# Altium schematic symbol library smart_lock.SCHLIB: 22 symbols
Pins are listed as number, name and electrical type; pins without a type are passive.

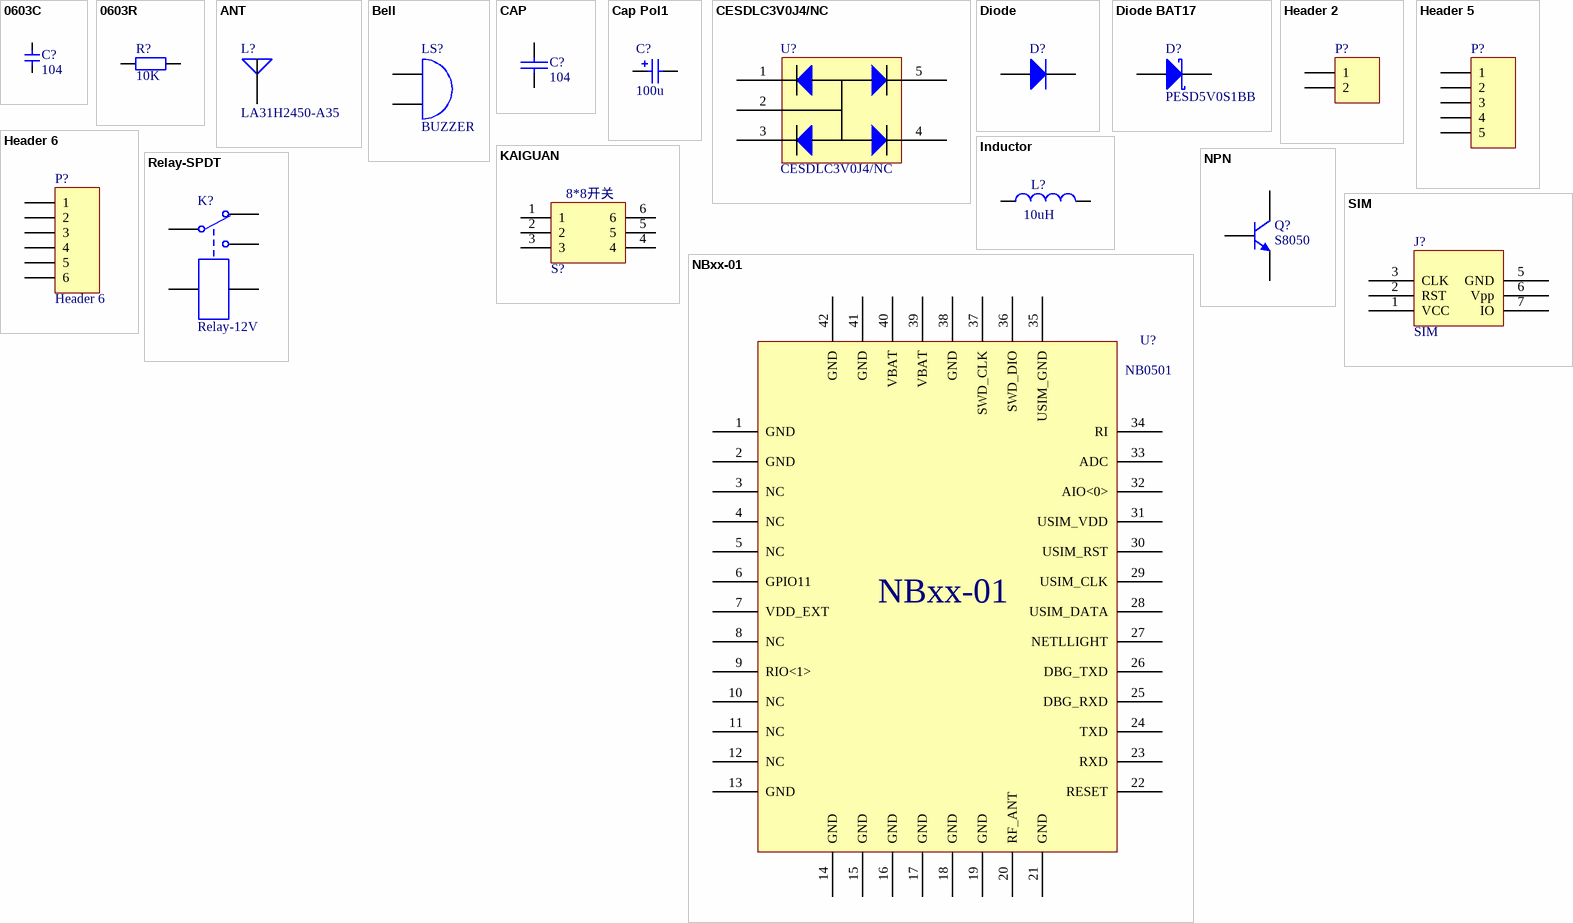
[diagram p0: symbols 0603C to SIM]

## 0603C
designator C?, comment 104
Capacitor
footprint 0603C
pins: 1, 2

## 0603R
designator R?, comment 10K
Resistor; Published: 8-Jun-2000; LatestRevisionDate: 17-Jul-2002; LatestRevisionNote: Re-released for DXP Platform.; PackageReference: 0805; Publisher: Altium Limited
footprint 0603
simulation model RESISTOR (Resistor)
signal-integrity model Res
pins: 1, 2

## ANT
designator L?, comment LA31H2450-A35
antena
footprint LA31H2450
pins: 1

## Bell
designator LS?, comment BUZZER
Electrical Bell; Published: 24-Mar-1999; LatestRevisionDate: 17-Jul-2002; LatestRevisionNote: Re-released for DXP Platform.; PackageReference: PIN2; Publisher: Altium Limited
footprint BUZZER
pins: 1 B, 2 A

## CAP
designator C?, comment 104
Capacitor
footprint RAD0.1
footprint 0805C
footprint 0603C
pins: 1, 2

## Cap Pol1
designator C?, comment 100u
Polarized Capacitor (Radial); Published: 8-Jun-2000; LatestRevisionDate: 17-Jul-2002; LatestRevisionNote: Re-released for DXP Platform.; PackageReference: RB7.6-15; Publisher: Altium Limited
footprint RB7.6-15 (Polarized Capacitor (Radial); 2 Leads)
footprint HA-C1 (Capacitor, Radial, Tantalum; Body 1.7 x 2.8 mm (Dia.xH max); Pin Spacing 1.27 mm (typ))
footprint A (Capacitor, Electrolytic, Radial; Body 4 x 5 mm (Dia.xH typ); Pin Spacing 1.5 mm (typ))
footprint B (Capacitor, Electrolytic, Radial; Body 5 x 6.8 mm (Dia.xH typ); Pin Spacing 2 mm (typ))
footprint CAPPR5-5x5 (Capacitor, Electrolytic, Radial; Body 5 x 5 mm (Dia.xH typ); Pin Spacing 5 mm (typ))
footprint CAPPR7.5-16x35 (Capacitor, Electrolytic, Radial; Body 16 x 35 mm (Dia.xH typ); Pin Spacing 7.5 mm (typ))
footprint SMD-EC-F6.3
pins: 1, 2
1 alternate drawing of the same symbol

## CESDLC3V0J4/NC
designator U?
diode array
footprint SOT353 (SOT-353/SC-88A; 5 Leads; Body 2.2 x 2.2 mm, inc. leads (LxW max))
pins: 1, 2, 3, 4, 5

## Diode
designator D?
Default Diode; Published: 8-Jun-2000; LatestRevisionDate: 17-Jul-2002; LatestRevisionNote: Re-released for DXP Platform.; PackageDocument: Sep-1996; PackageReference: SMC; Publisher: Altium Limited; Code_JEDEC: DO-214-AB
footprint SMC (DO-214-AB/SMC; 2 C-Bend Leads; Body 7.9 x 5.9 mm, inc. leads (LxW))
simulation model DIODE (Diode)
signal-integrity model Diode
footprint 1206D
pins: 1 A, 2 K

## Diode BAT17
designator D?, comment PESD5V0S1BB
Silicon RF Schottky Diode for Mixer Applications in the VHF/UHF Range; Note: Pin 2 is not connected and not drawn.; Published: 21-Mar-2003; DatasheetDocument: Oct-1999; PackageDocument: Sep-2001; PackageReference: SOT-23; Publisher: Altium Limited; ComponentLink1Description: Manufacturer Link; ComponentLink1URL: http://www.infineon.com/; ComponentLink2Description: Datasheet; ComponentLink2URL: http://www.infineon.com/upload/Document/cmc_upload/documents/009/363/bat17series.pdf
footprint SOT-23 (SOT-23; 3 Leads; Body 3.0 x 2.6 mm, inc. leads (LxW max))
simulation model D188 (DIODE)
footprint SOD-523
pins: 1 A, 2 K

## Header 2
designator P?
Header, 2-Pin; LatestRevisionDate: 17-Jul-2002; LatestRevisionNote: Re-released for DXP Platform.; Publisher: Altium Limited
footprint HX-2P
pins: 1, 2

## Header 5
designator P?
Header, 5-Pin; LatestRevisionDate: 17-Jul-2002; LatestRevisionNote: Re-released for DXP Platform.; Publisher: Altium Limited
footprint HDR1X5 (Connector; Header; 5 Position)
signal-integrity model Connector
pins: 1, 2, 3, 4, 5

## Header 6
designator P?
Header, 6-Pin; LatestRevisionDate: 17-Jul-2002; LatestRevisionNote: Re-released for DXP Platform.; Publisher: Altium Limited
footprint HDR1X6 (Connector; Header; 6 Position)
signal-integrity model Connector
pins: 1, 2, 3, 4, 5, 6

## Inductor
designator L?, comment 10uH
Inductor; Code_IEC: 1005; Published: 8-Jun-2000; LatestRevisionDate: 17-Jul-2002; LatestRevisionNote: Re-released for DXP Platform.; PackageReference: 0402-A; Publisher: Altium Limited; Code_JEITA: 0402
footprint 2012_Chip (2012 Chip; Chip Inductor; Body 2.0 x 1.2 mm (LxW typ))
footprint 2029 (Chip Inductor; Body 2 x 1.2 mm (LxW typ))
footprint 3261 (3216 Chip; Chip Inductor; Body 3.2 x 1.6 mm (LxW typ))
footprint 4564_Chip (4564 Chip; Chip Inductor; Body 4.5 x 6.4 mm (LxW typ))
simulation model INDUCTOR (Inductor)
footprint CD75NP
footprint CD54NP
footprint CD43NP (功率电感)
pins: 1, 2

## KAIGUAN
designator S?, comment 8*8开关
switch
footprint kaiguan
pins: 1, 2, 3, 4, 5, 6

## NBxx-01
designator U?, comment NB0501
nb-iot module, lierda
footprint NB05-SMD
pins: 1 GND, 2 GND, 3 NC, 4 NC, 5 NC, 6 GPIO11, 7 VDD_EXT, 8 NC, 9 RIO<1>, 10 NC, 11 NC, 12 NC, 13 GND, 14 GND, 15 GND, 16 GND, 17 GND, 18 GND, 19 GND, 20 RF_ANT, 21 GND, 22 RESET, 23 RXD, 24 TXD, 25 DBG_RXD, 26 DBG_TXD, 27 NETLLIGHT, 28 USIM_DATA, 29 USIM_CLK, 30 USIM_RST, 31 USIM_VDD, 32 AIO<0>, 33 ADC, 34 RI, 35 USIM_GND, 36 SWD_DIO, 37 SWD_CLK, 38 GND, 39 VBAT, 40 VBAT, 41 GND, 42 GND

## NPN
designator Q?, comment S8050
NPN Bipolar Transistor; Published: 8-Jun-2000; LatestRevisionDate: 17-Jul-2002; LatestRevisionNote: Re-released for DXP Platform.; PackageReference: TO-226; Publisher: Altium Limited; Code_JEDEC: TO-226-AA
footprint SOT-23 (SOT-23; 3 Leads; Body 3.0 x 2.6 mm, inc. leads (LxW max))
simulation model NPN
signal-integrity model NPN
pins: 1 B, 2 E, 3 C

## Relay-SPDT
designator K?, comment Relay-12V
Single-Pole Dual-Throw Relay; Published: 24-Mar-1999; LatestRevisionDate: 17-Jul-2002; LatestRevisionNote: Re-released for DXP Platform.; PackageReference: MODULE5B; Publisher: Altium Limited
footprint MODULE5B (DIP; 5 Round Pins; Row Space 15.24 mm; Pitch 2.54 mm)
simulation model SPDTRELAY (Spice Subcircuit)
footprint HJR-4102
pins: 1, 2, 3, 4, 5

## SIM
designator J?
sim card
footprint MINI_SIM
pins: 1 VCC, 2 RST, 3 CLK, 5 GND, 6 Vpp, 7 IO

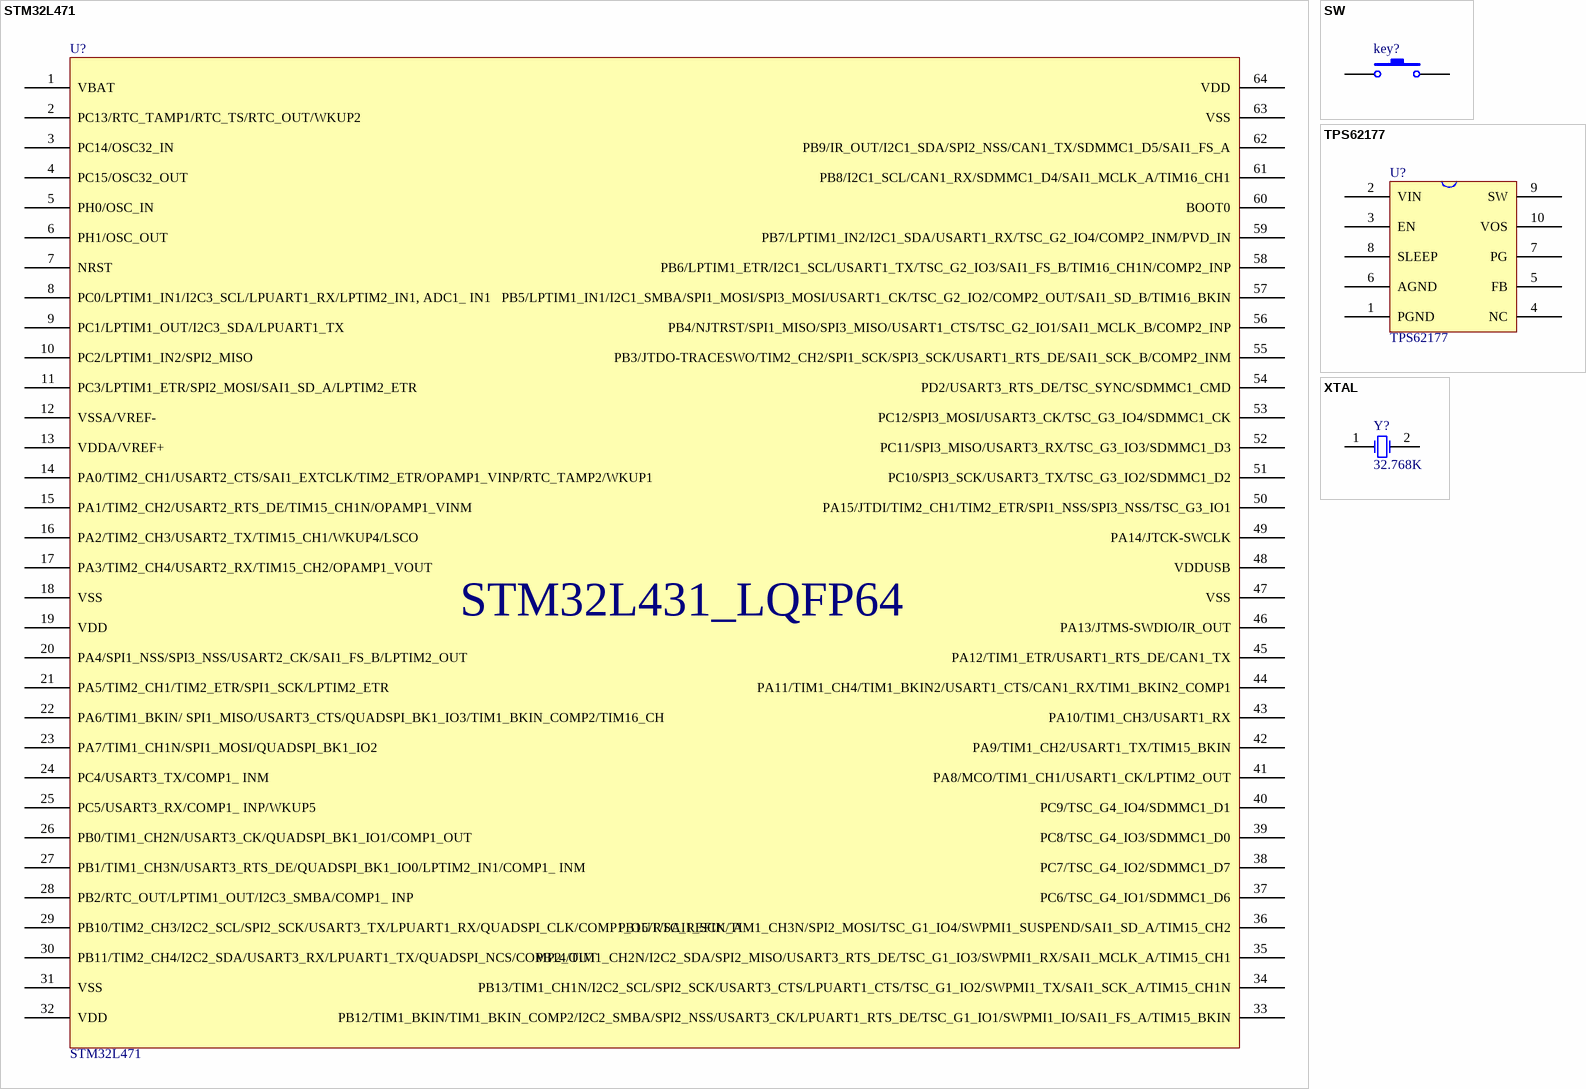
[diagram p1: symbols STM32L471 to XTAL]

## STM32L471
designator U?
stm microcontroller
footprint LQFP64
pins: 1 VBAT, 2 PC13/RTC_TAMP1/RTC_TS/RTC_OUT/WKUP2, 3 PC14/OSC32_IN, 4 PC15/OSC32_OUT, 5 PH0/OSC_IN, 6 PH1/OSC_OUT, 7 NRST, 8 PC0/LPTIM1_IN1/I2C3_SCL/LPUART1_RX/LPTIM2_IN1, ADC1_ IN1, 9 PC1/LPTIM1_OUT/I2C3_SDA/LPUART1_TX, 10 PC2/LPTIM1_IN2/SPI2_MISO, 11 PC3/LPTIM1_ETR/SPI2_MOSI/SAI1_SD_A/LPTIM2_ETR, 12 VSSA/VREF-, 13 VDDA/VREF+, 14 PA0/TIM2_CH1/USART2_CTS/SAI1_EXTCLK/TIM2_ETR/OPAMP1_VINP/RTC_TAMP2/WKUP1, 15 PA1/TIM2_CH2/USART2_RTS_DE/TIM15_CH1N/OPAMP1_VINM, 16 PA2/TIM2_CH3/USART2_TX/TIM15_CH1/WKUP4/LSCO, 17 PA3/TIM2_CH4/USART2_RX/TIM15_CH2/OPAMP1_VOUT, 18 VSS, 19 VDD, 20 PA4/SPI1_NSS/SPI3_NSS/USART2_CK/SAI1_FS_B/LPTIM2_OUT, 21 PA5/TIM2_CH1/TIM2_ETR/SPI1_SCK/LPTIM2_ETR, 22 PA6/TIM1_BKIN/ SPI1_MISO/USART3_CTS/QUADSPI_BK1_IO3/TIM1_BKIN_COMP2/TIM16_CH, 23 PA7/TIM1_CH1N/SPI1_MOSI/QUADSPI_BK1_IO2, 24 PC4/USART3_TX/COMP1_ INM, 25 PC5/USART3_RX/COMP1_ INP/WKUP5, 26 PB0/TIM1_CH2N/USART3_CK/QUADSPI_BK1_IO1/COMP1_OUT, 27 PB1/TIM1_CH3N/USART3_RTS_DE/QUADSPI_BK1_IO0/LPTIM2_IN1/COMP1_ INM, 28 PB2/RTC_OUT/LPTIM1_OUT/I2C3_SMBA/COMP1_ INP, 29 PB10/TIM2_CH3/I2C2_SCL/SPI2_SCK/USART3_TX/LPUART1_RX/QUADSPI_CLK/COMP1_OUT/SAI1_SCK_A, 30 PB11/TIM2_CH4/I2C2_SDA/USART3_RX/LPUART1_TX/QUADSPI_NCS/COMP2_OUT, 31 VSS, 32 VDD, 33 PB12/TIM1_BKIN/TIM1_BKIN_COMP2/I2C2_SMBA/SPI2_NSS/USART3_CK/LPUART1_RTS_DE/TSC_G1_IO1/SWPMI1_IO/SAI1_FS_A/TIM15_BKIN, 34 PB13/TIM1_CH1N/I2C2_SCL/SPI2_SCK/USART3_CTS/LPUART1_CTS/TSC_G1_IO2/SWPMI1_TX/SAI1_SCK_A/TIM15_CH1N, 35 PB14/TIM1_CH2N/I2C2_SDA/SPI2_MISO/USART3_RTS_DE/TSC_G1_IO3/SWPMI1_RX/SAI1_MCLK_A/TIM15_CH1, 36 PB15/RTC_REFIN/TIM1_CH3N/SPI2_MOSI/TSC_G1_IO4/SWPMI1_SUSPEND/SAI1_SD_A/TIM15_CH2, 37 PC6/TSC_G4_IO1/SDMMC1_D6, 38 PC7/TSC_G4_IO2/SDMMC1_D7, 39 PC8/TSC_G4_IO3/SDMMC1_D0, 40 PC9/TSC_G4_IO4/SDMMC1_D1, 41 PA8/MCO/TIM1_CH1/USART1_CK/LPTIM2_OUT, 42 PA9/TIM1_CH2/USART1_TX/TIM15_BKIN, 43 PA10/TIM1_CH3/USART1_RX, 44 PA11/TIM1_CH4/TIM1_BKIN2/USART1_CTS/CAN1_RX/TIM1_BKIN2_COMP1, 45 PA12/TIM1_ETR/USART1_RTS_DE/CAN1_TX, 46 PA13/JTMS-SWDIO/IR_OUT, 47 VSS, 48 VDDUSB, 49 PA14/JTCK-SWCLK, 50 PA15/JTDI/TIM2_CH1/TIM2_ETR/SPI1_NSS/SPI3_NSS/TSC_G3_IO1, 51 PC10/SPI3_SCK/USART3_TX/TSC_G3_IO2/SDMMC1_D2, 52 PC11/SPI3_MISO/USART3_RX/TSC_G3_IO3/SDMMC1_D3, 53 PC12/SPI3_MOSI/USART3_CK/TSC_G3_IO4/SDMMC1_CK, 54 PD2/USART3_RTS_DE/TSC_SYNC/SDMMC1_CMD, 55 PB3/JTDO-TRACESWO/TIM2_CH2/SPI1_SCK/SPI3_SCK/USART1_RTS_DE/SAI1_SCK_B/COMP2_INM, 56 PB4/NJTRST/SPI1_MISO/SPI3_MISO/USART1_CTS/TSC_G2_IO1/SAI1_MCLK_B/COMP2_INP, 57 PB5/LPTIM1_IN1/I2C1_SMBA/SPI1_MOSI/SPI3_MOSI/USART1_CK/TSC_G2_IO2/COMP2_OUT/SAI1_SD_B/TIM16_BKIN, 58 PB6/LPTIM1_ETR/I2C1_SCL/USART1_TX/TSC_G2_IO3/SAI1_FS_B/TIM16_CH1N/COMP2_INP, 59 PB7/LPTIM1_IN2/I2C1_SDA/USART1_RX/TSC_G2_IO4/COMP2_INM/PVD_IN, 60 BOOT0, 61 PB8/I2C1_SCL/CAN1_RX/SDMMC1_D4/SAI1_MCLK_A/TIM16_CH1, 62 PB9/IR_OUT/I2C1_SDA/SPI2_NSS/CAN1_TX/SDMMC1_D5/SAI1_FS_A, 63 VSS, 64 VDD
text: STM32L431_LQFP64

## SW
designator key?
Switch; Published: 24-Mar-1999; LatestRevisionDate: 17-Jul-2002; LatestRevisionNote: Re-released for DXP Platform.; PackageReference: SPST-2; Publisher: Altium Limited
footprint SPST-2 (Switch; 2 Leads)
footprint KEY-2
pins: 1, 2

## TPS62177
designator U?
dcdc chip
footprint QFPN10
pins: 1 PGND, 2 VIN, 3 EN, 4 NC, 5 FB, 6 AGND, 7 PG, 8 SLEEP, 9 SW, 10 VOS

## XTAL
designator Y?, comment 32.768K
Crystal Oscillator; Published: 8-Jun-2000; LatestRevisionDate: 17-Jul-2002; LatestRevisionNote: Re-released for DXP Platform.; PackageReference: R38; Publisher: Altium Limited
footprint R38 (Crystal, Thru-Hole; 2 Leads; Body 3.1 x 8.2 mm (Dia.xH))
simulation model XTAL (Spice Subcircuit)
footprint CRYSTAL
pins: 1 OSC1, 2 OSC2